# EAGLE library part TEENSY-LC (library Teensy-LC_v1.0)
This is a Teensy LC MCU based on the MKL26Z64VFT4. Note: To enable USB, you need to have 3.3V at VOUT3V3. If you want to supply 3.3V power externally, provide it to VCC, VREGIN, and VOUT3V3. The Voltage Regulator will go into dropout mode.
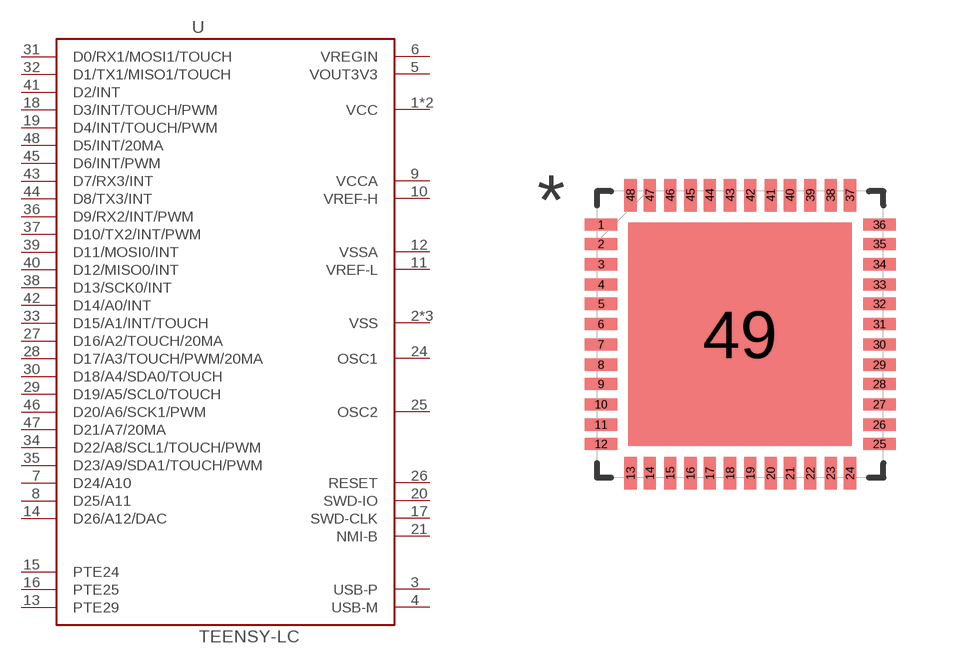
[diagram p0: symbol with the pads of QFN50P700X700X100-49N; footprint QFN50P700X700X100-49N]

Designator prefix -

## TEENSY-LC  [QFN50P700X700X100-49N]
1  VCC
2  VSS
3  USB-P
4  USB-M
5  VOUT3V3
6  VREGIN
7  D24/A10
8  D25/A11
9  VCCA
10  VREF-H
11  VREF-L
12  VSSA
13  PTE29
14  D26/A12/DAC
15  PTE24
16  PTE25
17  SWD-CLK
18  D3/INT/TOUCH/PWM
19  D4/INT/TOUCH/PWM
20  SWD-IO
21  NMI-B
22  VCC
23  VSS
24  OSC1
25  OSC2
26  RESET
27  D16/A2/TOUCH/20MA
28  D17/A3/TOUCH/PWM/20MA
29  D19/A5/SCL0/TOUCH
30  D18/A4/SDA0/TOUCH
31  D0/RX1/MOSI1/TOUCH
32  D1/TX1/MISO1/TOUCH
33  D15/A1/INT/TOUCH
34  D22/A8/SCL1/TOUCH/PWM
35  D23/A9/SDA1/TOUCH/PWM
36  D9/RX2/INT/PWM
37  D10/TX2/INT/PWM
38  D13/SCK0/INT
39  D11/MOSI0/INT
40  D12/MISO0/INT
41  D2/INT
42  D14/A0/INT
43  D7/RX3/INT
44  D8/TX3/INT
45  D6/INT/PWM
46  D20/A6/SCK1/PWM
47  D21/A7/20MA
48  D5/INT/20MA
49  VSS

## Footprint QFN50P700X700X100-49N (pad centres in mm)
smd 0.813 x 0.305: 1 -3.48,2.743; 2 -3.48,2.261; 3 -3.48,1.753; 4 -3.48,1.245; 5 -3.48,0.762; 6 -3.48,0.254; 7 -3.48,-0.254; 8 -3.48,-0.762; 9 -3.48,-1.245; 10 -3.48,-1.753; 11 -3.48,-2.261; 12 -3.48,-2.743; 25 3.48,-2.743; 26 3.48,-2.261; 27 3.48,-1.753; 28 3.48,-1.245; 29 3.48,-0.762; 30 3.48,-0.254; 31 3.48,0.254; 32 3.48,0.762; 33 3.48,1.245; 34 3.48,1.753; 35 3.48,2.261; 36 3.48,2.743
smd 0.305 x 0.813: 13 -2.743,-3.48; 14 -2.261,-3.48; 15 -1.753,-3.48; 16 -1.245,-3.48; 17 -0.762,-3.48; 18 -0.254,-3.48; 19 0.254,-3.48; 20 0.762,-3.48; 21 1.245,-3.48; 22 1.753,-3.48; 23 2.261,-3.48; 24 2.743,-3.48; 37 2.743,3.48; 38 2.261,3.48; 39 1.753,3.48; 40 1.245,3.48; 41 0.762,3.48; 42 0.254,3.48; 43 -0.254,3.48; 44 -0.762,3.48; 45 -1.245,3.48; 46 -1.753,3.48; 47 -2.261,3.48; 48 -2.743,3.48
smd 5.588 x 5.588: 49 0,0